# EAGLE library part 428542320817 (library Switches_rev16a)
WS-RAS, 7x7 mm washable SMT Rotary Switch, 6 pins, 16 positions, round Arrow type, ivory actuator, complement code
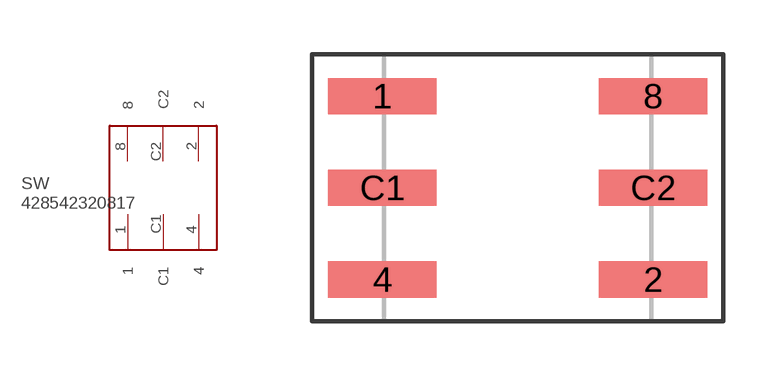
[diagram p127: symbol with the pads of 428542320817; footprint 428542320817]

Designator prefix SW

## 428542320817  [428542320817]
1  1
2  2
4  4
8  8
C1  C1
C2  C2

## Footprint 428542320817 (pad centres in mm)
WS-RAS, 7x7 mm washable SMT Rotary Switch, 6 pins, 16 positions, round Arrow type, ivory actuator, complement code
smd 3 x 1: 1 -3.75,2.54; 2 3.75,-2.54; 4 -3.75,-2.54; 8 3.75,2.54; C1 -3.75,0; C2 3.75,0